# Altium schematic symbol library SCH - DAC - AKM AK4454.Schlib: 1 symbol
Pins are listed as number, name and electrical type; pins without a type are passive.

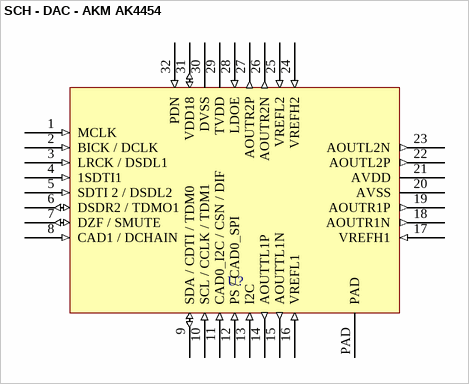
[diagram p0: symbol SCH - DAC - AKM AK4454]

## SCH - DAC - AKM AK4454
designator U?
pins: 1 MCLK (in) "External Master Clock Input Pin External Master Clock Input PinExternal Master Clock Input Pin External Master Clock Input PinExternal Master Clock Input Pin External Master Clock Input Pin External Master Clock Input PinExternal Master Clock Input PinExternal Master Clock Input Pin External Master Clock Input PinExternal Master Clock Input Pin External Master Clock Input Pin External Master Clock Input Pin External Master Clock Input PinExternal", 2 BICK / DCLK (in) "PinAudio Serial Data Clock Pin Audio Serial Data Clock Pin Audio Serial Data Clock PinAudio Serial Data Clock PinAudio Serial Data Clock Pin Audio Serial Data Clock Pin Audio Serial Data Clock PinAudio Serial Data Clock PinAudio Serial Data Clock Pin Audio Serial Data Clock Pin Audio Serial Data Clock Pin Audio Serial Data Clock Pin in PCM mode PCM mode PCM / modeDSD Clock Pin in DSD mode DSD Clock Pin in mode DSD Clock Pin in modeDSD Clock Pin in DSD mode DSD Clock Pin in mode DSD Clock Pin in mode DSD Clock Pin in mode DSD Clock Pin in mode DSD", 3 LRCK / DSDL1 (in) "Channel Clock Pin Input Channel Clock Pin Input Channel Clock Pin Input Channel Clock Pin Input Channel Clock Pin Input Channel Clock Pin Input Channel Clock Pin Input Channel Clock Pin Input Channel Clock Pin in PCM modein PCM modein PCM mode in PCM mode in PCM mode / Audio Serial Data Input in Audio Serial Data Input in Audio Serial Data Input in Audio Serial Data Input in Audio Serial Data Input in Audio Serial Data Input in Audio Serial Data Input in Audio Serial Data Input in Audio Serial Data Input in Audio Serial Data Input in Audio Serial Data Input in Audio Serial Data Input in Audio Serial Data Input in DSD mode", 4 1SDTI1 (in) "Audio Serial Data Input Audio Serial Data Input Audio Serial Data Input Audio Serial Data Input Audio Serial Data Input Audio Serial Data Input Audio Serial Data Input Audio Serial Data Input Audio Serial Data Input Audio Serial Data Input Audio Serial Data Input Audio Serial Data Input in PCM modein PCM mode in PCM mode in PCM mode in PCM mode / Audio Serial Data Input in Audio Serial Data Input in Audio Serial Data Input in Audio Serial Data Input in Audio Serial Data Input in Audio Serial Data Input in Audio Serial Data Input in Audio Serial Data Input in Audio Serial Data Input in Audio Serial Data Input in Audio Serial Data Input in Audio Serial Data Input in Audio Serial Data Input in DSD mode", 5 SDTI 2 / DSDL2 (in) "Audio Serial Data in PCM mode / Audio Serial Data Input in DSD mode", 6 DSDR2 / TDMO1 (io) "Audio Serial Data Input DSD mode / Audio Serial Data Output in Daisy Chain mode", 7 DZF / SMUTE (io) "AudZero Input Dect in I2C Bus or 3-wire serial control mode / Soft Mute Pin in Parallel control mode. Soft Mute Pin in Parallel control mode.Soft Mute Pin in Parallel control mode. Soft Mute Pin in Parallel control mode. Soft Mute Pin in Parallel control mode. Soft Mute Pin in Parallel control mode. Soft Mute Pin in Parallel control mode. Soft Mute Pin in Parallel control mode.Soft Mute Pin in Parallel control mode.Soft Mute Pin in Parallel control mode.Soft Mute Pin in Parallel control mode. Soft Mute Pin in Parallel control mode.Soft Mute Pin in Parallel control mode. Soft Mute Pin in Parallel control mode. Soft Mute Pin in Parallel control mode.Soft Mute Pin in Parallel control mode.Soft Mute Pin in Parallel control mode.Soft Mute Pin in Parallel control mode. Soft Mute Pin in Parallel control mode.  When this pin is changed to When this pin is changed to When this pin is changed to When this pin is changed to When this pin is changed to When this pin is changed to When this pin is changed to When this pin is changed to When this pin is changed to When this pin is changed to When this pin is changed to When this pin is changed to “H”, soft mute cycle is in , soft mute cycle is in, soft mute cycle is in, soft mute cycle is in , soft mute cycle is in , soft mute cycle is in , soft mute cycle is in, soft mute cycle is in , soft mute cycle is in , soft mute cycle is in, soft mute cycle is in , soft mute cycle is initiated. itiated. itiated. itiated. itiated. When returning When returning When returning When returning When returning When returning When returning When returning When returning “L”, the output mute releases. , the output mute releases. , the output mute releases., the output mute releases. , the output mute releases. , the output mute releases. , the output mute releases. , the output mute releases., the output mute releases. , the output mute releases. , the output mute releases", 8 CAD1 / DCHAIN (in) "Chip Address 0 Pin in I2C  or 3-wire serial control mode / Daisy Chain Mode select pin in Parallel control mode", 9 SDA / CDTI / TDM0 (io) "Control Data Input Pin in I2C Bus serial control mode / Control Data Input Pin in 3-wire serial control mode / TDM Mode select pin in Parallel control mode", 10 SCL / CCLK / TDM1 (in) "Control Data Input Pin in I2C Bus serial control mode / Control Data Input Pin in 3-wire serial control mode / TDM Mode select pin in Parallel control mode", 11 CAD0_I2C / CSN / DIF (in) "Chip Address 0 Pin in I2C Bus serial control mode / Chip Select Pin in 3-wire serial control mode / Audio Data Format select in Parallel control mode "L": 32-bit MSB, "H": 32-bit I2S", 12 PS / CAD0_SPI (in) "Control Mode Select Pin / Chip Address 0 Pin in 3-wire werial control mode", 13 I2C (in) "Control Mode Select Pin", 14 AOUTTL1P (out) "L ch Positice Analog Output 1 Pin", 15 AOUTTL1N (out) "L ch Negativ Analog Output 1 Pin", 16 VREFL1 (in) "Negative Voltage Reference Input Pin, AVSS", 17 VREFH1 (in) "Positive Voltage Reference Input Pin, AVDD", 18 AOUTR1N (out) "R ch Negative Analog Output 1 Pin", 19 AOUTR1P (out) "R ch Positive Analog Output 1 Pin", 20 AVSS (power) "Analog Ground Pin", 21 AVDD (power) "Analog Power Supply Pin, 3.0-5.5V", 22 AOUTL2P (out) "L ch Positive Analog Output 2 Pin", 23 AOUTL2N (out) "L ch Negative Analog Output 2 Pin", 24 VREFH2 (in) "Positive Volatge Reference Input Pin, AVDD", 25 VREFL2 (in) "Negative Volatge Reference Input Pin, AVSS", 26 AOUTR2N (out) "R ch Negative Analog Output 2 Pin", 27 AOUTR2P (out) "R ch Positive Analog Output 2 Pin", 28 LDOE (in) "Internal LDO Enable Pin", 29 TVDD (power) "Digital Power Supply Pin, 3.0-3.6V", 30 DVSS (power) "Digital Ground Pin", 31 VDD18 (io) "LDO Output Pin / 1.8V Power Input Pin", 32 PDN (in) "Power-Down & Reset Pin", PAD (power) "Exposed PAD"